# EAGLE library part PIC18F258-I_SO (library PIC18F258-I_SO)
Microcontroller,PIC18F258-I/SO 40MHz Source: Datasheet <https://datasheet.datasheetarchive.com/originals/distributors/Datasheets-35/DSA-681538.pdf>
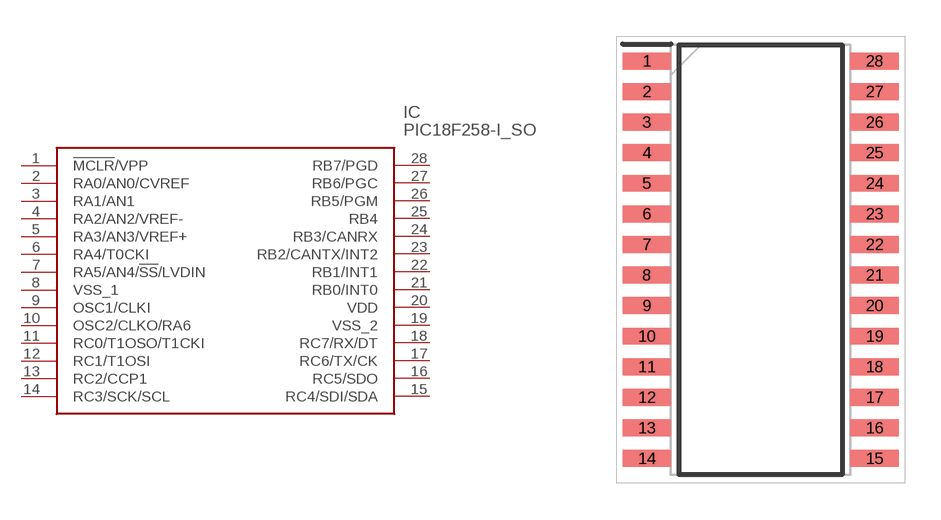
[diagram p0: symbol with the pads of SOIC127P1034X264-28N; footprint SOIC127P1034X264-28N]

Designator prefix IC

## PIC18F258-I_SO (Arrow_Part_Number: PIC18F258-I/SO; Arrow_Price-Stock: https://www.arrow.com/en/products/pic18f258-iso/microchip-technology; Description: Microcontroller,PIC18F258-I/SO 40MHz; Height: 2.64mm; Manufacturer_Name: Microchip; Manufacturer_Part_Number: PIC18F258-I/SO; Mouser_Part_Number: 579-PIC18F258-I/SO; Mouser_Price-Stock: https://www.mouser.co.uk/ProductDetail/Microchip-Technology-Atmel/PIC18F258-I-SO?qs=uMUszenkLLJD5g8PY%252BN5ow%3D%3D)  [SOIC127P1034X264-28N]
1  !MCLR!/VPP
2  RA0/AN0/CVREF
3  RA1/AN1
4  RA2/AN2/VREF-
5  RA3/AN3/VREF+
6  RA4/T0CKI
7  RA5/AN4/!SS!/LVDIN
8  VSS_1
9  OSC1/CLKI
10  OSC2/CLKO/RA6
11  RC0/T1OSO/T1CKI
12  RC1/T1OSI
13  RC2/CCP1
14  RC3/SCK/SCL
15  RC4/SDI/SDA
16  RC5/SDO
17  RC6/TX/CK
18  RC7/RX/DT
19  VSS_2
20  VDD
21  RB0/INT0
22  RB1/INT1
23  RB2/CANTX/INT2
24  RB3/CANRX
25  RB4
26  RB5/PGM
27  RB6/PGC
28  RB7/PGD

## Footprint SOIC127P1034X264-28N (pad centres in mm)
28-Lead Plastic Small Outline (SO)-2
smd 1.998 x 0.7: 1 -4.726,8.255; 2 -4.726,6.985; 3 -4.726,5.715; 4 -4.726,4.445; 5 -4.726,3.175; 6 -4.726,1.905; 7 -4.726,0.635; 8 -4.726,-0.635; 9 -4.726,-1.905; 10 -4.726,-3.175; 11 -4.726,-4.445; 12 -4.726,-5.715; 13 -4.726,-6.985; 14 -4.726,-8.255; 15 4.726,-8.255; 16 4.726,-6.985; 17 4.726,-5.715; 18 4.726,-4.445; 19 4.726,-3.175; 20 4.726,-1.905; 21 4.726,-0.635; 22 4.726,0.635; 23 4.726,1.905; 24 4.726,3.175; 25 4.726,4.445; 26 4.726,5.715; 27 4.726,6.985; 28 4.726,8.255